# Altium schematic symbol library 液晶_数码管.SchLib: 4 symbols
Pins are listed as number, name and electrical type; pins without a type are passive.

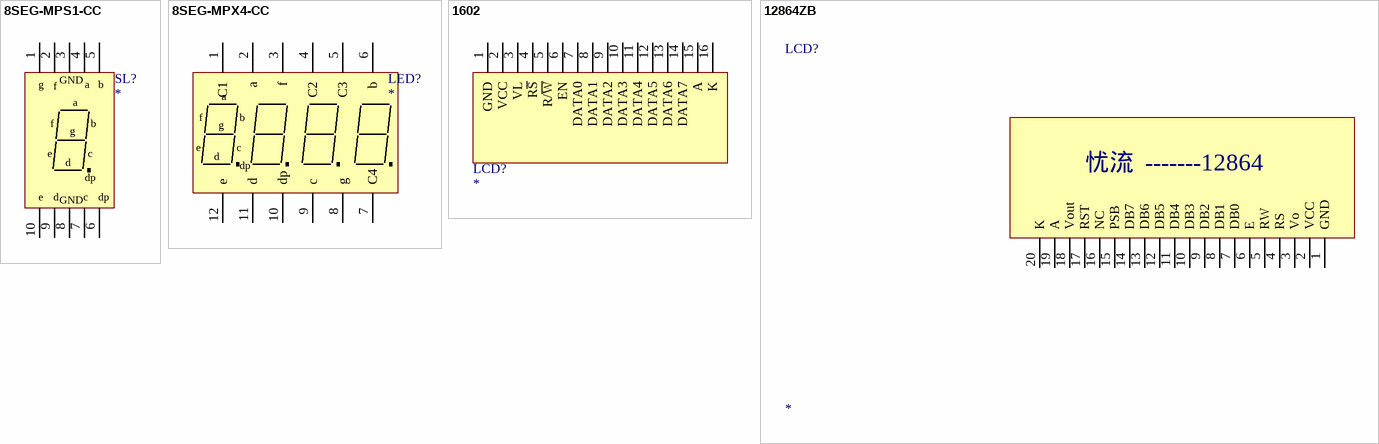
[diagram p0: symbols 8SEG-MPS1-CC to 12864ZB]

## 8SEG-MPS1-CC
designator SL?
footprint LM1
pins: 1, 2, 3, 4, 5, 6, 7, 8, 9, 10
text: GND; g; f; a; b; e; c; d; dp

## 8SEG-MPX4-CC
designator LED?
footprint 4in1
footprint 4in1B
footprint SMG 0.4-4P (40.5*16*7mm(长宽厚))
pins: 1 C1, 2 a, 3 f, 4 C2, 5 C3, 6 b, 7 C4, 8 g, 9 c, 10 dp, 11 d, 12 e

## 1602
designator LCD?
footprint 1602
footprint 1602-1
footprint 1602A
pins: 1 GND, 2 VCC, 3 VL, 4 R~{S}, 5 R/~{W}, 6 EN, 7 DATA0, 8 DATA1, 9 DATA2, 10 DATA3, 11 DATA4, 12 DATA5, 13 DATA6, 14 DATA7, 15 A, 16 K

## 12864ZB
designator LCD?
footprint 12864ZB
pins: 1 GND, 2 VCC, 3 Vo, 4 RS, 5 RW, 6 E, 7 DB0, 8 DB1, 9 DB2, 10 DB3, 11 DB4, 12 DB5, 13 DB6, 14 DB7, 15 PSB, 16 NC, 17 RST, 18 Vout, 19 A, 20 K
text: 忧流; -------12864